# EAGLE library part JAMMA-EDGE-CONNECTOR-PADS (library arcadetv)
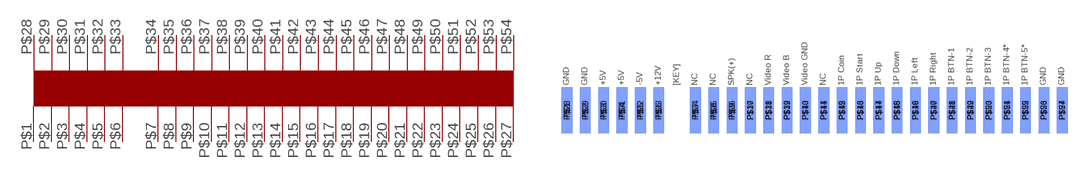
[diagram p2: symbol with the pads of JAMMA-EDGE-CONNECTOR; footprint JAMMA-EDGE-CONNECTOR]

Designator prefix -

## JAMMA-EDGE-CONNECTOR-PADS  [JAMMA-EDGE-CONNECTOR]
P$1  P$1
P$2  P$2
P$3  P$3
P$4  P$4
P$5  P$5
P$6  P$6
P$7  P$7
P$8  P$8
P$9  P$9
P$10  P$10
P$11  P$11
P$12  P$12
P$13  P$13
P$14  P$14
P$15  P$15
P$16  P$16
P$17  P$17
P$18  P$18
P$19  P$19
P$20  P$20
P$21  P$21
P$22  P$22
P$23  P$23
P$24  P$24
P$25  P$25
P$26  P$26
P$27  P$27
P$28  P$28
P$29  P$29
P$30  P$30
P$31  P$31
P$32  P$32
P$33  P$33
P$34  P$34
P$35  P$35
P$36  P$36
P$37  P$37
P$38  P$38
P$39  P$39
P$40  P$40
P$41  P$41
P$42  P$42
P$43  P$43
P$44  P$44
P$45  P$45
P$46  P$46
P$47  P$47
P$48  P$48
P$49  P$49
P$50  P$50
P$51  P$51
P$52  P$52
P$53  P$53
P$54  P$54

## Footprint JAMMA-EDGE-CONNECTOR (pad centres in mm)
smd 2.3 x 10: P$1 -51.48,5; P$2 -47.52,5; P$3 -43.56,5; P$4 -39.6,5; P$5 -35.64,5; P$6 -31.68,5; P$7 -23.76,5; P$8 -19.8,5; P$9 -15.84,5; P$10 -11.88,5; P$11 -7.92,5; P$12 -3.96,5; P$13 0,5; P$14 3.96,5; P$15 7.92,5; P$16 11.88,5; P$17 15.84,5; P$18 19.8,5; P$19 23.76,5; P$20 27.72,5; P$21 31.68,5; P$22 35.64,5; P$23 39.6,5; P$24 43.56,5; P$25 47.52,5; P$26 51.48,5; P$27 55.44,5
smd 2.3 x 10 bottom: P$28 -51.48,5; P$29 -47.52,5; P$30 -43.56,5; P$31 -39.6,5; P$32 -35.64,5; P$33 -31.68,5; P$34 -23.76,5; P$35 -19.8,5; P$36 -15.84,5; P$37 -11.88,5; P$38 -7.92,5; P$39 -3.96,5; P$40 0,5; P$41 3.96,5; P$42 7.92,5; P$43 11.88,5; P$44 15.84,5; P$45 19.8,5; P$46 23.76,5; P$47 27.72,5; P$48 31.68,5; P$49 35.64,5; P$50 39.6,5; P$51 43.56,5; P$52 47.52,5; P$53 51.48,5; P$54 55.44,5